# EAGLE library part IC_AUDIO_AMP_PAM8302A (library homemade-hardware)
PAM8302A <https://www.digikey.com/product-detail/en/diodes-incorporated/PAM8302AADCR/PAM8302AADCRDIDKR-ND/8546185>: Mono 2.5W Audio Amplifier
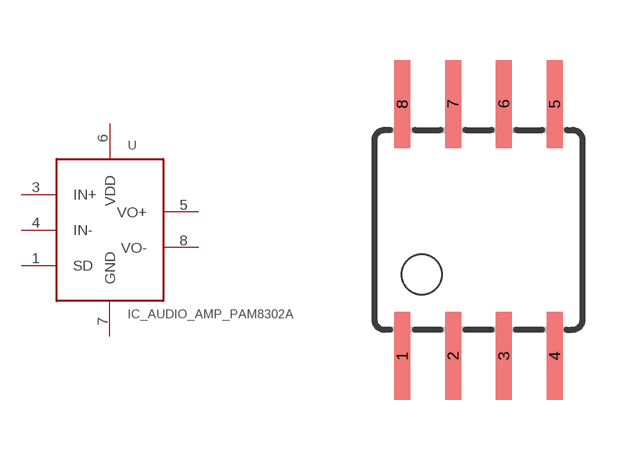
[diagram p19: symbol with the pads of SOIC8; footprint SOIC8]

Designator prefix -

## IC_AUDIO_AMP_PAM8302A (PN: PAM8302AADCR)  [SOIC8]
1  SD
3  IN+
4  IN-
5  VO+
6  VDD
7  GND
8  VO-

## Footprint SOIC8 (pad centres in mm)
Wide Plastic Gull Wing Small Outline Package
smd 0.4 x 2.2: 1 -1.905,-3.154; 2 -0.635,-3.154; 3 0.635,-3.154; 4 1.905,-3.154; 5 1.905,3.154; 6 0.635,3.154; 7 -0.635,3.154; 8 -1.905,3.154